# EAGLE library part C&K_JS202011SCQN (library gclueParts)
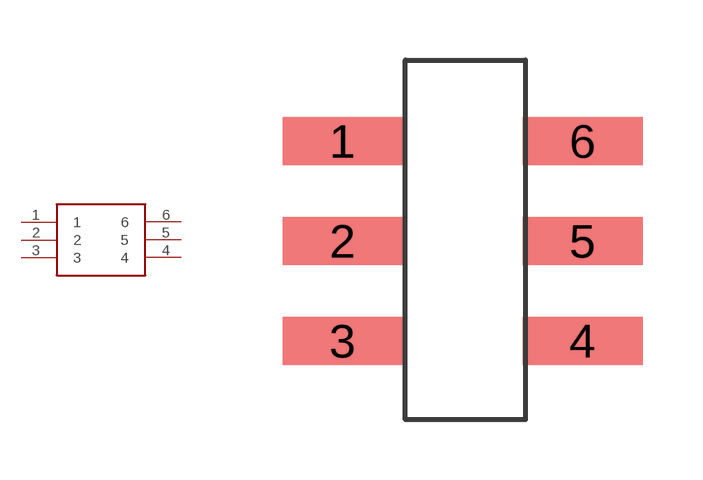
[diagram p0: symbol with the pads of C&K_JS202011SCQN; footprint C&K_JS202011SCQN]

Designator prefix -

## C&K_JS202011SCQN  [C&K_JS202011SCQN]
1  1
2  2
3  3
4  4
5  5
6  6

## Footprint C&K_JS202011SCQN (pad centres in mm)
smd 3 x 1.2: 1 -3.07,2.47; 2 -3.07,-0.03; 3 -3.07,-2.53; 4 2.93,-2.53; 5 2.93,-0.03; 6 2.93,2.47